# EAGLE library part RLP434 (library E&R_Modulos)
Receptor de RF a 433.92MHz de la empresa LAIPAC - RLP434
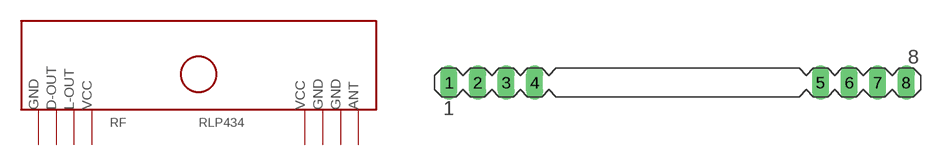
[diagram p0: symbol with the pads of RLP434; footprint RLP434]

Designator prefix RF

## RLP434  [RLP434]
1  GND  pwr
2  D-OUT  out
3  L-OUT  out
4  VCC  pwr
5  VCC1  pwr
6  GND1  pwr
7  GND2  pwr
8  ANT  in

## Footprint RLP434 (pad centres in mm)
Receptor de RF a 433.92MHz de la empresa LAIPAC - RLP434
drill 1.016 long: 1 -26.67,-2.54; 2 -24.13,-2.54; 3 -21.59,-2.54; 4 -19.05,-2.54; 5 6.35,-2.54; 6 8.89,-2.54; 7 11.43,-2.54; 8 13.97,-2.54